# Altium footprint library qfn_fcmod_9_p65_450x400x210.PcbLib: 1 footprints
Each footprint in its own frame and in the unit in brackets; x right, y up, seen from the top. Pads: shape width x height; smd on the part's side, far side on the other; paste and mask are expansions set on the pad; w line width, h text height; cw(c..) or ccw(c..) is an arc to the next point about the centre after c.
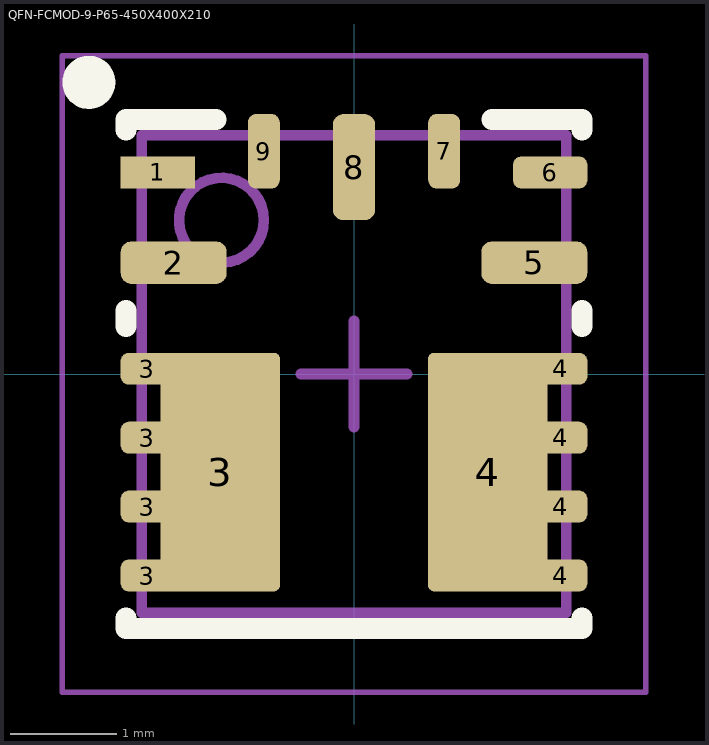
[diagram p0: the footprint, top view; thin cyan lines are the x and y axes]

## QFN-FCMOD-9-P65-450X400X210 [mm] "QFN-FCMOD, 9-Leads, Body 4,50x4,00mm, Pitch 0,65mm, IPC Medium Density"
height 2.1
pads (17):
  rect 0.7x0.3 smd: 1(-1.85,1.9)
  rrect50% 1x0.4 smd: 2(-1.7,1.05) 5(1.7,1.05)
  rrect50% 0.5x0.3 smd: 3(-1.95,-1.9) 3(-1.95,-1.25) 3(-1.95,-0.6) 3(-1.95,0.05) 4(1.95,-1.9) 4(1.95,-1.25) 4(1.95,-0.6) 4(1.95,0.05)
  rrect10% 1.125x2.25 smd: 3(-1.26,-0.925) 4(1.26,-0.925)
  rrect50% 0.7x0.3 smd: 6(1.85,1.9)
  rrect50% 0.3x0.7 smd: 7(0.85,2.1) 9(-0.85,2.1)
  rrect50% 0.4x1 smd: 8(0,1.95)
Top Overlay:
  circle w0.25: c-2.5,2.75 r0.125
  lines w0.2: -2.15,-2.3 -2.15,-2.4 2.15,-2.4 2.15,-2.3 ; -2.15,0.45 -2.15,0.6 ; -2.15,2.3 -2.15,2.4 -1.3,2.4 ; 1.3,2.4 2.15,2.4 2.15,2.3 ; 2.15,0.45 2.15,0.6
Top Comment:
  text ".Comment" at 1,3.2 h1.2
Top Designator:
  text ".Designator" at -0.5,3.2 h1.2
Top Component Outline:
  circle w0.1: c-1.25,1.45 r0.4
  lines w0.1: -2,-2.25 2,-2.25 2,2.25 -2,2.25 -2,-2.25
Top Courtyard (Mech15):
  lines w0.05: -2.75,-3 2.75,-3 2.75,3 -2.75,3 -2.75,-3
  lines w0.1: -0.5,0 0.5,0 ; 0,-0.5 0,0.5
3D body "QFN-FCMOD-9.STEP": height 2.1, standoff 0, extent -2,-2.25 2,2.25